# Altium schematic symbol library STM32F103C8T6.SchLib: 1 symbol
Pins are listed as number, name and electrical type; pins without a type are passive.

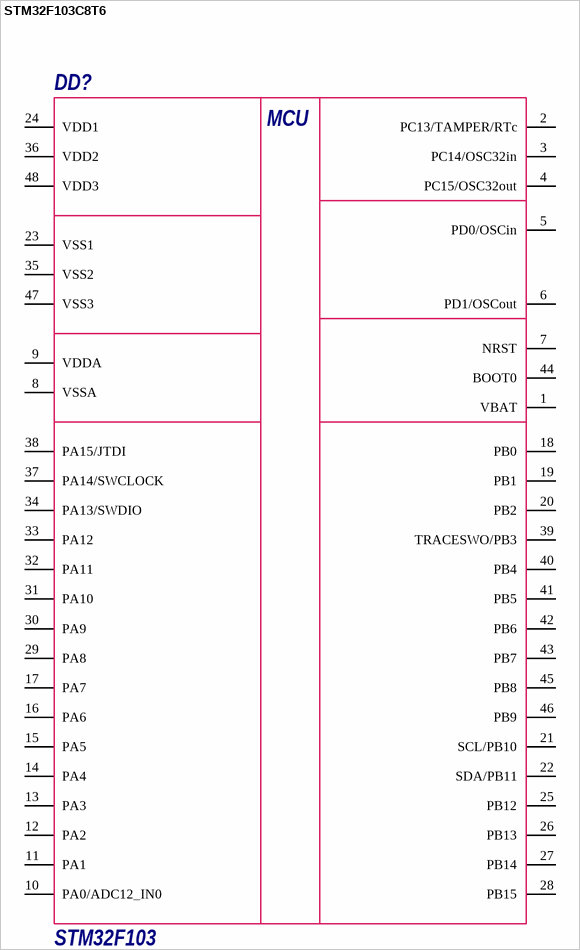
[diagram p0: symbol STM32F103C8T6]

## STM32F103C8T6
designator DD?, comment STM32F103  Value1: MCU
Микроконтроллер; Manufacturer: ST Microelectronics; Rate: -0,3...4,0В; Shop: магазин с самой дешевой ценой; Notice: 48 пиновая версия STM32F103; Datasheet: http://www.st.com/content/ccc/resource/technical/document/datasheet/33/d4/6f/1d/df/0b/4c/6d/CD00161566.pdf/files/CD00161566.pdf/jcr:content/translations/en.CD00161566.pdf; Case: корпус
pins: 1 VBAT, 2 PC13/TAMPER/RTc, 3 PC14/OSC32in, 4 PC15/OSC32out, 5 PD0/OSCin, 6 PD1/OSCout, 7 NRST, 8 VSSA, 9 VDDA, 10 PA0/ADC12_IN0, 11 PA1, 12 PA2, 13 PA3, 14 PA4, 15 PA5, 16 PA6, 17 PA7, 18 PB0, 19 PB1, 20 PB2, 21 SCL/PB10, 22 SDA/PB11, 23 VSS1, 24 VDD1, 25 PB12, 26 PB13, 27 PB14, 28 PB15, 29 PA8, 30 PA9, 31 PA10, 32 PA11, 33 PA12, 34 PA13/SWDIO, 35 VSS2, 36 VDD2, 37 PA14/SWCLOCK, 38 PA15/JTDI, 39 TRACESWO/PB3, 40 PB4, 41 PB5, 42 PB6, 43 PB7, 44 BOOT0, 45 PB8, 46 PB9, 47 VSS3, 48 VDD3